# Altium footprint library TestCase1.PcbLib: 22 footprints (part 1 of 2)
Each footprint in its own frame and in the unit in brackets; x right, y up, seen from the top. Pads: shape width x height; smd on the part's side, far side on the other; paste and mask are expansions set on the pad; w line width, h text height; cw(c..) or ccw(c..) is an arc to the next point about the centre after c.
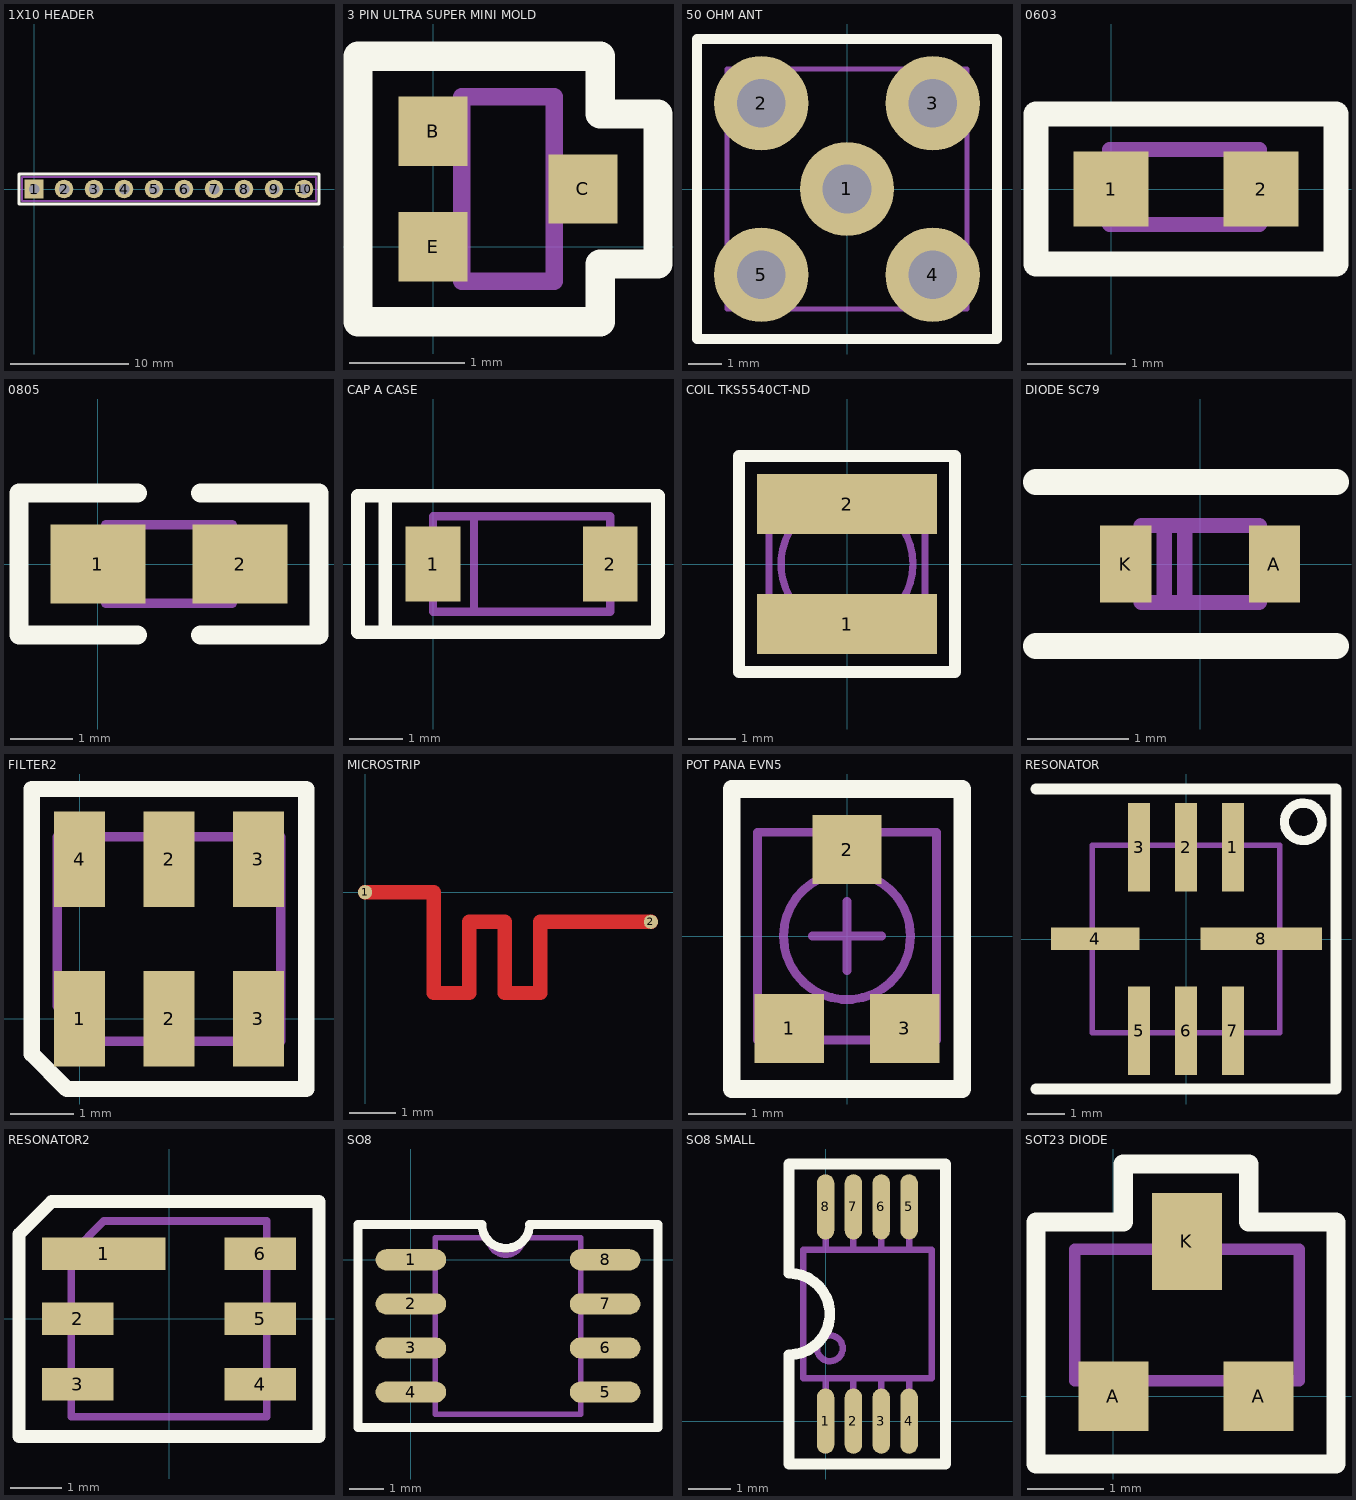
[diagram p0: the footprints below, top view; thin cyan lines are the x and y axes]

## 1X10 HEADER [mil]
pads (10):
  rect 62x62 hole 35: 1(0,0)
  round 62 hole 35: 2(100,0) 3(200,0) 4(300,0) 5(400,0) 6(500,0) 7(600,0) 8(700,0) 9(800,0) 10(900,0)
Top Overlay:
  lines w10: -50,-50 -50,0 -50,50 950,50 950,-50 -50,-50
Mechanical 1:
  lines w6: -40,-40 -40,40 940,40 940,-40 -40,-40
  text ".Comment" at 420,-70 h10
  text ".Designator" at 169.18,-89.32 h25

## 3 PIN ULTRA SUPER MINI MOLD [mm]
pads (3):
  rect 0.6x0.6 smd: B(0,1) C(1.3,0.5) E(0,0)
Top Overlay:
  lines w0.254: -0.65,-0.65 -0.65,1.6 -0.65,1.65 1.45,1.65 1.45,1.15 1.95,1.15 1.95,-0.15 1.45,-0.15 1.45,-0.65 -0.65,-0.65
Mechanical 1:
  lines w0.152: 0.25,-0.15 -0.15,-0.15 -0.15,0.15 0.25,0.15 ; 0.25,0.85 -0.15,0.85 -0.15,1.15 0.25,1.15 ; 1.05,0.35 1.45,0.35 1.45,0.65 1.05,0.65 ; 0.25,-0.3 1.05,-0.3 1.05,1.3 0.25,1.3 0.25,-0.3
  text ".Designator" at 0.841,1.658 h0.64

## 50 OHM ANT [mil]
pads (5):
  round 110 hole 57: 1(0,0) 2(-100,100) 3(100,100) 4(100,-100) 5(-100,-100)
Top Overlay:
  lines w12: -175,-175 175,-175 175,0 175,175 -175,175 -175,-175
Mechanical 1:
  lines w6: -140,-140 140,-140 140,0 140,140 -140,140 -140,-140
  text ".Designator" at -16.32,80.82 h25

## 0603 [mil]
pads (2):
  rect 30x30 smd: 1(0,0) 2(60,0)
Top Overlay:
  lines w10: -30,-30 -30,30 90,30 90,-30 -30,-30
Mechanical 1:
  lines w6: -0.53,-14.25 -0.53,15.75 59.47,15.75 59.47,-14.25 -0.53,-14.25
  text ".Designator" at -13,13.18 h25

## 0805 [mil]
pads (2):
  rect 60x50 smd: 1(0,0) 2(90,0)
Top Overlay:
  lines w12: 25,-45 -50,-45 -50,45 25,45 ; 65,-45 140,-45 140,45 65,45
Mechanical 1:
  lines w6: 5,-25 5,25 85,25 85,-25 5,-25
  text ".Designator" at 31,34.82 h25

## CAP A CASE [mil]
pads (2):
  rect 40x55 smd: 1(0,0) 2(130,0)
Top Overlay:
  lines w10: -35,-50 165,-50 165,50 100,50 -35,50 ; -35,-50 -35,50 ; -35,-50 -55,-50 -55,50 -35,50
Mechanical 1:
  lines w6: 30,-35 30,35 ; 65,35 130,35 ; 130,0 130,-35 ; 130,-35 130,35 ; 130,-35 0,-35 0,35 130,35
  text ".Designator" at 45.28,47.87 h25

## COIL TKS5540CT-ND [mil]
pads (2):
  rect 150x50 smd: 1(0,-50) 2(0,50)
Top Overlay:
  lines w10: -90,-90 -90,0 -90,90 60,90 90,90 90,0 90,-90 -60,-90 -90,-90
Mechanical 1:
  circle w6: c0,0 r55
  lines w6: -65,-65 65,-65 65,0 65,65 -65,65 -65,-65
  text ".Designator" at -20.98,73.29 h25

## DIODE SC79 [mil]
pads (2):
  rect 20x30 smd: A(29,0) K(-29,0)
Top Overlay:
  lines w10: -64,-32 -53,-32 -36,-32 53,-32 ; -64,32 -53,32 36,32 53,32
Mechanical 1:
  lines w6: -31,0 -23,0 ; -6,15 -6,-15 -14,-15 -14,15 -23,15 ; 0,15 -23,15 ; 23,0 31,0 ; -23,15 -23,-15 23,-15 23,15 -23,15
  text ".Designator" at 16.01,-45.82 h25

## FILTER2 [mm]
pads (6):
  rect 0.8x1.5 smd: 1(0,0) 2(1.4,0) 2(1.4,2.5) 3(2.8,0) 3(2.8,2.5) 4(0,2.5)
Top Overlay:
  lines w0.254: -0.75,-0.55 -0.2,-1.1 3.55,-1.1 3.55,1.25 3.55,3.6 3,3.6 -0.75,3.6 -0.75,1.25 -0.75,-0.55
Mechanical 1:
  lines w0.152: 1.4,2.85 -0.35,2.85 ; -0.35,2.85 -0.35,0.2 0.2,-0.35 3.15,-0.35 3.15,2.85 -0.35,2.85
  text ".Designator" at 0.913,1.46 h0.64

## MICROSTRIP [mil]
pads (2):
  round 12 smd: 1(0.06,0.06) 2(241.47,-24.94)
Top Layer:
  lines w12: 0.06,0.06 58,0.06 58,-84.94 88,-84.94 88,-24.94 118,-24.94 118,-29.94 118,-84.94 148,-84.94 148,-24.94 241.25,-24.94 241.47,-24.94
Mechanical 1:
  text ".Designator" at 108.65,-60.94 h25

## POT PANA EVN5 [mm]
pads (3):
  rect 1.2x1.2 smd: 1(-1,-1.6) 2(0,1.5) 3(1,-1.6)
Top Overlay:
  lines w0.305: -2,-2.65 0,-2.65 2,-2.65 2,2.55 0,2.55 -2,2.55 -2,-2.65
Mechanical 1:
  circle w0.152: c0,0 r1.1
  lines w0.152: -0.6,0 0,0 ; 0,-0.6 0,0 ; 0,0.6 0,0 ; 0,1.8 -1.55,1.8 ; 0.6,0 0,0 ; -1.55,1.8 -1.55,-1.8 1.55,-1.8 1.55,1.8 -1.55,1.8
  text ".Designator" at -0.233,3.454 h0.64

## RESONATOR [mm]
pads (8):
  rect 0.6x2.4 smd: 1(1.27,2.489) 2(0,2.489) 3(-1.27,2.489) 5(-1.27,-2.491) 6(0,-2.491) 7(1.27,-2.491)
  rect 2.4x0.6 smd: 4(-2.462,0.008)
  rect 3.28x0.6 smd: 8(2.038,0.008)
Top Overlay:
  circle w0.254: c3.175,3.175 r0.508
  lines w0.305: -4.064,-4.064 4.064,-4.064 4.064,0 4.064,4.064 -4.064,4.064
Mechanical 1:
  circle w0.152: c3.175,3.175 r0.508
  lines w0.152: -2.54,-2.54 -2.54,2.54 2.54,2.54 2.54,0 2.54,-2.54 -2.54,-2.54
  text ".Designator" at -0.567,0.224 h0.64

## RESONATOR2 [mil]
pads (6):
  rect 95x25 smd: 1(-50,50)
  rect 55x25 smd: 2(-70,0) 3(-70,-50) 4(70,-50) 5(70,0) 6(70,50)
Top Overlay:
  lines w10: -115,-90 0,-90 115,-90 115,50 115,90 0,90 -90,90 -115,65 -115,-50 -115,-90
Mechanical 1:
  lines w6: -75,-75 75,-75 75,75 0,75 -50,75 -75,50 -75,-75
  text ".Designator" at 16,-19.75 h25

## SO8 [mil]
pads (8):
  oval 80x24 smd: 1(0,0) 2(0,-50) 3(0,-100) 4(0,-150) 5(220,-150) 6(220,-100) 7(220,-50) 8(220,0)
Top Overlay:
  lines w10: -60,-190 280,-190 280,40 134.54,40 cw(c107.5,40) 80.46,40 -60,40 -60,-190
Mechanical 1:
  lines w6: 27.5,-155 0,-155 0,-145 27.5,-145 ; 27.5,-105 0,-105 0,-95 27.5,-95 ; 27.5,-55 0,-55 0,-45 27.5,-45 ; 27.5,-5 0,-5 0,5 27.5,5 ; 192.5,-155 220,-155 220,-145 192.5,-145 ; 192.5,-105 220,-105 220,-95 192.5,-95 ; 192.5,-55 220,-55 220,-45 192.5,-45 ; 192.5,-5 220,-5 220,5 192.5,5 ; 27.5,-175 27.5,25 87.5,25 ccw(c107.5,25) 127.5,25 192.5,25 192.5,-175 27.5,-175
  text ".Designator" at 103.75,-70 h25

## SO8 SMALL [mil]
pads (8):
  oval 16x60 smd: 1(0,0) 2(25.59,0) 3(51.18,0) 4(76.77,0) 5(76.77,196.85) 6(51.18,196.85) 7(25.59,196.85) 8(0,196.85)
Top Overlay:
  lines w10: -33.46,-39.37 -33.46,61.02 ccw(c-33.46,98.43) -33.46,135.83 -33.46,236.22 74.8,236.22 110.24,236.22 110.24,153.54 110.24,-39.37 1.97,-39.37 -33.46,-39.37
Mechanical 1:
  circle w6: c3.94,66.93 r11.81
  lines w6: 0,0 0,39.37 ; 0,157.48 0,196.85 ; 25.59,0 25.59,39.37 ; 25.59,157.48 25.59,196.85 ; 51.18,0 51.18,39.37 ; 51.18,157.48 51.18,196.85 ; 76.77,0 76.77,39.37 ; 76.77,157.48 76.77,196.85 ; 97.44,98.43 97.44,157.48 ; 97.44,157.48 -20.67,157.48 -20.67,39.37 97.44,39.37 97.44,157.48
  text ".Designator" at 15,113.75 h25

## SOT23 DIODE [mil]
pads (3):
  rect 36x36 smd: A(0,0) A(75,0)
  rect 36x50 smd: K(38,80)
Top Overlay:
  lines w10: -40,-35 115,-35 115,90 70,90 70,120 23,120 5,120 5,90 -40,90 -40,-35
Mechanical 1:
  lines w6: -10,8 -10,-8 10,-8 10,8 ; 30,76 30,94 46,94 46,76 ; 66,8 66,-8 84,-8 84,8 ; -20,8 96,8 96,76 -20,76 -20,8
  text ".Designator" at 22,-45 h25